# EAGLE library part LTC3129-1 (library everykey)
Linear Technology efficient low current buck/boost converter
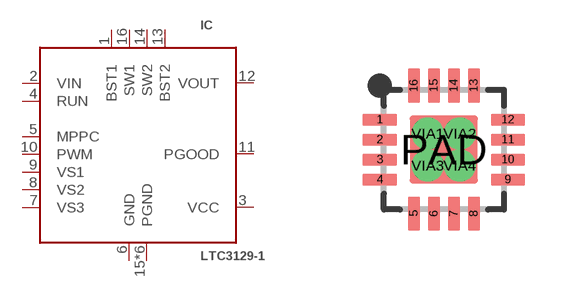
[diagram p86: symbol with the pads of QFN16-0.5-EP; footprint QFN16-0.5-EP]

Designator prefix IC

## LTC3129-1-UD  [QFN16-0.5-EP]
1  BST1  pas
2  VIN  pwr
3  VCC  pwr
4  RUN  pwr
5  MPPC  in
6  GND  pwr
7  VS3  in
8  VS2  in
9  VS1  in
10  PWM  in
11  PGOOD  out
12  VOUT  pwr
13  BST2  pas
14  SW2  pas
15  PGND  pwr
16  SW1  pas
PAD  PGND  pwr
VIA1  PGND  pwr
VIA2  PGND  pwr
VIA3  PGND  pwr
VIA4  PGND  pwr

## Footprint QFN16-0.5-EP (pad centres in mm)
QFN package 3x3mm, 16 pins, exposed pad, 0.5mm pitch
smd 0.85 x 0.3: 1 -1.6,0.75; 2 -1.6,0.25; 3 -1.6,-0.25; 4 -1.6,-0.75; 9 1.6,-0.75; 10 1.6,-0.25; 11 1.6,0.25; 12 1.6,0.75
smd 0.3 x 0.85: 5 -0.75,-1.6; 6 -0.25,-1.6; 7 0.25,-1.6; 8 0.75,-1.6; 13 0.75,1.6; 14 0.25,1.6; 15 -0.25,1.6; 16 -0.75,1.6
smd 1.7 x 1.7: PAD 0,0
drill 0.3: VIA1 -0.4,0.4; VIA2 0.4,0.4; VIA3 -0.4,-0.4; VIA4 0.4,-0.4